# Altium footprint library SG__PCB_Chip.PcbLib: 121 footprints (part 6 of 8)
Each footprint in its own frame and in the unit in brackets; x right, y up, seen from the top. Pads: shape width x height; smd on the part's side, far side on the other; paste and mask are expansions set on the pad; w line width, h text height; cw(c..) or ccw(c..) is an arc to the next point about the centre after c.
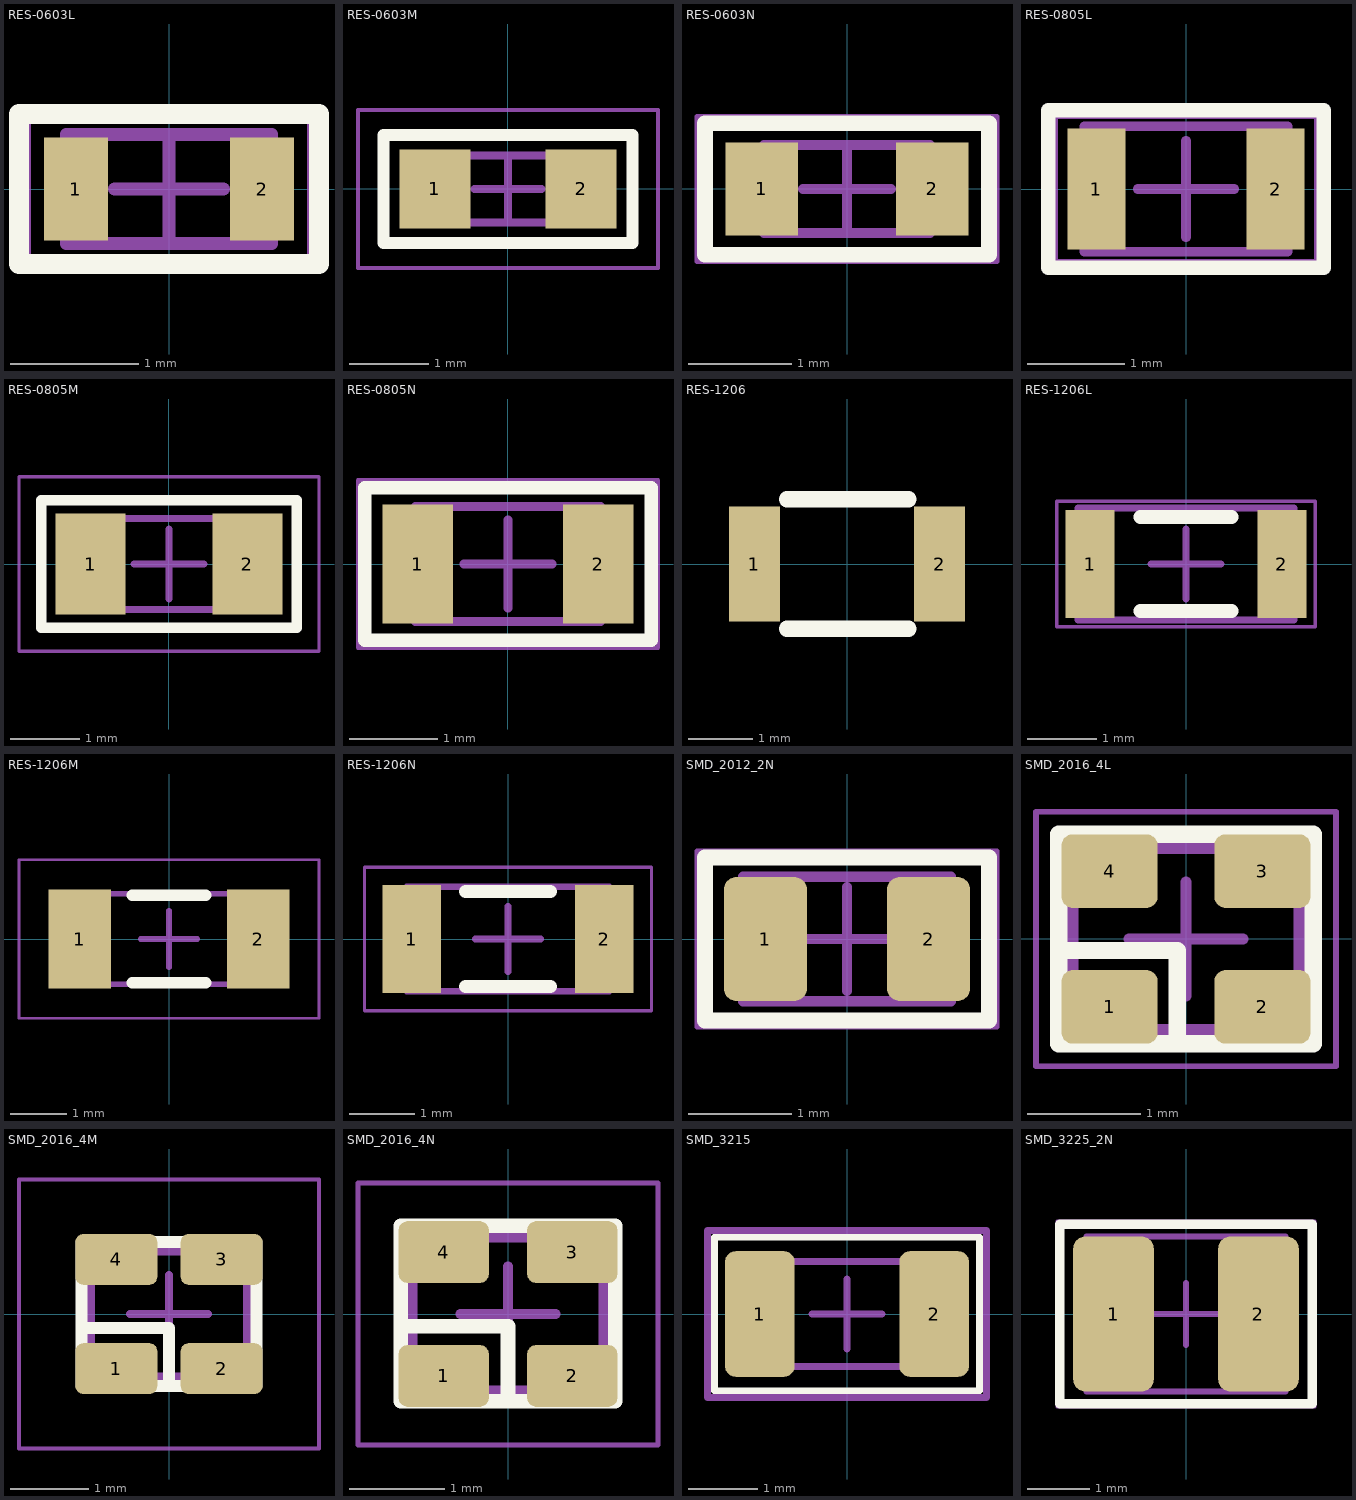
[diagram p5: the footprints below, top view; thin cyan lines are the x and y axes]

## RES-0603L [mm] "Chip Resistor, 2-Leads, Body 1,60x0,85mm, IPC High Density"
height 0.45
pads (2):
  rect 0.5x0.8 smd: 1(-0.725,0) 2(0.725,0)
Top Overlay:
  lines w0.152: -1.168,-0.584 -1.168,-0.559 -1.168,0.584 1.168,0.584 1.168,-0.584 -1.143,-0.584
Assembly Top:
  lines w0.1: -0.8,-0.425 -0.8,0.425 0.8,0.425 0.8,-0.425 -0.8,-0.425
Courtyard Top:
  lines w0.05: -1.1,-0.55 -1.1,0.55 1.1,0.55 1.1,-0.55 -1.1,-0.55
  lines w0.1: -0.425,0 0.425,0 ; 0,-0.425 0,0.425
3D body "RESC1608X04L.step": height 0.45, standoff 0, extent -0.8,-0.425 0.8,0.425

## RES-0603M [mm] "Chip Resistor, 2-Leads, Body 1,60x0,85mm, IPC Low Density"
height 0.45
pads (2):
  rect 0.9x1 smd: 1(-0.925,0) 2(0.925,0)
Top Overlay:
  lines w0.152: -1.575,-0.381 -1.575,-0.686 -1.245,-0.686 ; -1.575,-0.66 -1.549,-0.686 1.575,-0.686 1.575,0.686 -1.575,0.686 -1.575,-0.66
Assembly Top:
  lines w0.1: -0.8,-0.425 -0.8,0.425 0.8,0.425 0.8,-0.425 -0.8,-0.425
Courtyard Top:
  lines w0.05: -1.9,-1 -1.9,1 1.9,1 1.9,-1 -1.9,-1
  lines w0.1: -0.425,0 0.425,0 ; 0,-0.425 0,0.425
3D body "RESC1608X04M.step": height 0.45, standoff 0, extent -0.8,-0.425 0.8,0.425

## RES-0603N [mm] "Chip Resistor, 2-Leads, Body 1,60x0,85mm, IPC Medium Density"
height 0.45
pads (2):
  rect 0.7x0.9 smd: 1(-0.825,0) 2(0.825,0)
Top Overlay:
  lines w0.152: -1.372,-0.635 -1.372,0.635 1.372,0.635 1.372,-0.635 -1.346,-0.635
Assembly Top:
  lines w0.1: -0.8,-0.425 -0.8,0.425 0.8,0.425 0.8,-0.425 -0.8,-0.425
Courtyard Top:
  lines w0.05: -1.45,-0.7 -1.45,0.7 1.45,0.7 1.45,-0.7 -1.45,-0.7
  lines w0.1: -0.425,0 0.425,0 ; 0,-0.425 0,0.425
3D body "RESC1608X04N.step": height 0.45, standoff 0, extent -0.8,-0.425 0.8,0.425

## RES-0805L [mm] "Chip Resistor, 2-Leads, Body 2,10x1,30mm, IPC High Density"
height 0.5
pads (2):
  rect 0.6x1.25 smd: 1(-0.925,0) 2(0.925,0)
Top Overlay:
  lines w0.152: -1.422,-0.813 -1.422,0.813 1.422,0.813 1.422,-0.813 -1.422,-0.813
Assembly Top:
  lines w0.1: -1.05,-0.65 -1.05,0.65 1.05,0.65 1.05,-0.65 -1.05,-0.65
Courtyard Top:
  lines w0.05: -1.35,-0.75 -1.35,0.75 1.35,0.75 1.35,-0.75 -1.35,-0.75
  lines w0.1: -0.5,0 0.5,0 ; 0,-0.5 0,0.5
3D body "RESC2113X05L.step": height 0.5, standoff 0, extent -1.05,-0.65 1.05,0.65

## RES-0805M [mm] "Chip Resistor, 2-Leads, Body 2,10x1,30mm, IPC Low Density"
height 0.5
pads (2):
  rect 1x1.45 smd: 1(-1.125,0) 2(1.125,0)
Top Overlay:
  lines w0.152: -1.803,-0.914 1.829,-0.914 1.829,0.914 -1.803,0.914 -1.829,0.914 -1.829,0.102 -1.829,-0.914 -1.245,-0.914
Assembly Top:
  lines w0.1: -1.05,-0.65 -1.05,0.65 1.05,0.65 1.05,-0.65 -1.05,-0.65
Courtyard Top:
  lines w0.05: -2.15,-1.25 -2.15,1.25 2.15,1.25 2.15,-1.25 -2.15,-1.25
  lines w0.1: -0.5,0 0.5,0 ; 0,-0.5 0,0.5
3D body "RESC2113X05M.step": height 0.5, standoff 0, extent -1.05,-0.65 1.05,0.65

## RES-0805N [mm] "Chip Resistor, 2-Leads, Body 2,10x1,30mm, IPC Medium Density"
height 0.5
pads (2):
  rect 0.8x1.35 smd: 1(-1.025,0) 2(1.025,0)
Top Overlay:
  lines w0.152: -1.6,-0.864 1.626,-0.864 1.626,0.864 -1.626,0.864 -1.626,-0.864 -1.549,-0.864
Assembly Top:
  lines w0.1: -1.05,-0.65 -1.05,0.65 1.05,0.65 1.05,-0.65 -1.05,-0.65
Courtyard Top:
  lines w0.05: -1.7,-0.95 -1.7,0.95 1.7,0.95 1.7,-0.95 -1.7,-0.95
  lines w0.1: -0.5,0 0.5,0 ; 0,-0.5 0,0.5
3D body "RESC2113X05N.step": height 0.5, standoff 0, extent -1.05,-0.65 1.05,0.65

## RES-1206 [mm]
pads (2):
  rect 0.8x1.8 smd mask+0.05: 1(-1.45,0) 2(1.45,0)
Top Overlay:
  lines w0.254: -0.942,-1.016 0.963,-1.016 ; -0.942,1.016 0.963,1.016
3D body "RES 1206.step": height 0.57, standoff 0, extent -1.501,-0.711 1.599,0.841

## RES-1206L [mm] "Chip Resistor, 2-Leads, Body 3,10x1,60mm, IPC High Density"
height 0.55
pads (2):
  rect 0.7x1.55 smd: 1(-1.375,0) 2(1.375,0)
Top Overlay:
  lines w0.2: -0.65,-0.675 0.65,-0.675 ; -0.65,0.675 0.65,0.675
Assembly Top:
  lines w0.1: -1.55,-0.8 -1.55,0.8 1.55,0.8 1.55,-0.8 -1.55,-0.8
Courtyard Top:
  lines w0.05: -1.85,-0.9 -1.85,0.9 1.85,0.9 1.85,-0.9 -1.85,-0.9
  lines w0.1: -0.5,0 0.5,0 ; 0,-0.5 0,0.5
3D body "RESC3116X06L.step": height 0.55, standoff 0, extent -1.55,-0.8 1.55,0.8

## RES-1206M [mm] "Chip Resistor, 2-Leads, Body 3,10x1,60mm, IPC Low Density"
height 0.55
pads (2):
  rect 1.1x1.75 smd: 1(-1.575,0) 2(1.575,0)
Top Overlay:
  lines w0.2: -0.65,-0.775 0.65,-0.775 ; -0.65,0.775 0.65,0.775
Assembly Top:
  lines w0.1: -1.55,-0.8 1.55,-0.8 1.55,0.8 -1.55,0.8 -1.55,-0.8
Courtyard Top:
  lines w0.05: -2.65,-1.4 2.65,-1.4 2.65,1.4 -2.65,1.4 -2.65,-1.4
  lines w0.1: -0.5,0 0.5,0 ; 0,-0.5 0,0.5
3D body "RESC3116X06M.step": height 0.55, standoff 0, extent -1.55,-0.8 1.55,0.8

## RES-1206N [mm] "Chip Resistor, 2-Leads, Body 3,10x1,60mm, IPC Medium Density"
height 0.55
pads (2):
  rect 0.9x1.65 smd: 1(-1.475,0) 2(1.475,0)
Top Overlay:
  lines w0.2: -0.65,-0.725 0.65,-0.725 ; -0.65,0.725 0.65,0.725
Assembly Top:
  lines w0.1: -1.55,-0.8 1.55,-0.8 1.55,0.8 -1.55,0.8 -1.55,-0.8
Courtyard Top:
  lines w0.05: -2.2,-1.1 2.2,-1.1 2.2,1.1 -2.2,1.1 -2.2,-1.1
  lines w0.1: -0.5,0 0.5,0 ; 0,-0.5 0,0.5
3D body "RESC3116X06N.step": height 0.55, standoff 0, extent -1.55,-0.8 1.55,0.8

## SMD_2012_2N [mm] "DFN, 2-Leads, Body 1,20x2,00mm, Pitch 1,50mm, IPC Medium Density"
height 0.6
pads (2):
  rrect30% 0.8x1.2 smd: 1(-0.787,0) 2(0.787,0)
Top Overlay:
  lines w0.152: -0.762,-0.787 1.372,-0.787 1.372,-0.152 1.372,0.787 1.016,0.787 -1.372,0.787 -1.372,0.051 -1.372,-0.787 -0.711,-0.787
Assembly Top:
  lines w0.1: -1,-0.6 1,-0.6 1,0.6 -1,0.6 -1,-0.6
Courtyard Top:
  lines w0.05: -1.448,-0.85 1.448,-0.85 1.448,0.85 -1.448,0.85 -1.448,-0.85
  lines w0.1: -0.5,0 0.5,0 ; 0,-0.5 0,0.5
3D body: height 0.6, standoff 0.05, extent -1,-0.6 1,0.6

## SMD_2016_4L [mm] "QFN, 4-Leads, Body 2,00x1,60mm, Pitch 1,35mm/1,05mm, IPC High Density"
height 0.65
pads (4):
  rrect30% 0.85x0.65 smd: 1(-0.675,-0.6) 2(0.675,-0.6) 3(0.675,0.6) 4(-0.675,0.6)
Top Overlay:
  lines w0.152: -1.118,-0.102 -0.076,-0.102 -0.076,-0.925 1.125,-0.925 1.125,0.175 1.125,0.925 -0.1,0.925 -1.125,0.925 -1.125,-0.6 -1.125,-0.925 -0.075,-0.925
Assembly Top:
  lines w0.1: -1,-0.8 1,-0.8 1,0.8 -1,0.8 -1,-0.8
Courtyard Top:
  lines w0.05: -1.325,-1.125 1.325,-1.125 1.325,1.125 -1.325,1.125 -1.325,-1.125
  lines w0.1: -0.5,0 0.5,0 ; 0,-0.5 0,0.5
3D body: height 0.65, standoff 0, extent -1,-0.801 1,0.801

## SMD_2016_4M [mm] "QFN, 4-Leads, Body 2,00x1,60mm, Pitch 1,35mm/1,05mm, IPC Low Density"
height 0.65
pads (4):
  rrect30% 1.05x0.65 smd: 1(-0.675,-0.7) 2(0.675,-0.7) 3(0.675,0.7) 4(-0.675,0.7)
Top Overlay:
  lines w0.152: -1.092,-0.178 0,-0.178 0,-0.925 -1.125,-0.925 -1.125,-0.6 -1.125,0.925 -0.1,0.925 1.125,0.925 1.125,0.175 1.125,-0.925 -0.1,-0.925
Assembly Top:
  lines w0.1: -1,-0.8 1,-0.8 1,0.8 -1,0.8 -1,-0.8
Courtyard Top:
  lines w0.05: -1.925,-1.725 1.925,-1.725 1.925,1.725 -1.925,1.725 -1.925,-1.725
  lines w0.1: -0.5,0 0.5,0 ; 0,-0.5 0,0.5
3D body: height 0.65, standoff 0, extent -1,-0.801 1,0.801

## SMD_2016_4N [mm] "QFN, 4-Leads, Body 2,00x1,60mm, Pitch 1,35mm/1,05mm, IPC Medium Density"
height 0.65
pads (4):
  rrect30% 0.95x0.65 smd: 1(-0.675,-0.65) 2(0.675,-0.65) 3(0.675,0.65) 4(-0.675,0.65)
Top Overlay:
  lines w0.152: -1.092,-0.127 0,-0.127 0,-0.914 ; 0,-0.914 1.125,-0.914 1.125,0.175 1.125,0.925 -0.1,0.925 -1.125,0.925 -1.125,-0.6 -1.125,-0.914 0,-0.914
Assembly Top:
  lines w0.1: -1,-0.8 1,-0.8 1,0.8 -1,0.8 -1,-0.8
Courtyard Top:
  lines w0.05: -1.575,-1.375 1.575,-1.375 1.575,1.375 -1.575,1.375 -1.575,-1.375
  lines w0.1: -0.5,0 0.5,0 ; 0,-0.5 0,0.5
3D body: height 0.65, standoff 0, extent -1,-0.801 1,0.801

## SMD_3215 [mm] "Crystal"
height 0.85
pads (2):
  rrect30% 1x1.8 smd: 1(-1.25,0) 2(1.25,0)
Top Overlay:
  lines w0.1: -1.9,-1.1 1.9,-1.1 1.9,1.1 -1.9,1.1 -1.9,-1.1
Assembly Top:
  lines w0.1: -1.6,-0.75 1.6,-0.75 1.6,0.75 -1.6,0.75 -1.6,-0.75
Courtyard Top:
  lines w0.1: -0.5,0 0.5,0 ; 0,-0.5 0,0.5 ; -2,-1.2 2,-1.2 2,-0.9 2,1.2 -2,1.2 -2,-1.2
3D body "crystal_rtf3215.stp": height 0.9, standoff -0.01, extent -1.6,-0.75 1.6,0.75

## SMD_3225_2N [mm] "DFN, 2-Leads, Body 2,50x3,20mm, Pitch 1,90mm, IPC Medium Density"
height 0.85
pads (2):
  rrect30% 1.3x2.5 smd: 1(-1.168,0) 2(1.168,0)
Top Overlay:
  lines w0.152: -2.032,-1.448 -2.032,1.448 2.032,1.448 2.032,-1.448 -2.032,-1.448
Assembly Top:
  lines w0.1: -1.6,-1.25 1.6,-1.25 1.6,1.25 -1.6,1.25 -1.6,-1.25
Courtyard Top:
  lines w0.05: -2.083,-1.5 2.083,-1.5 2.083,1.5 -2.083,1.5 -2.083,-1.5
  lines w0.1: -0.5,0 0.5,0 ; 0,-0.5 0,0.5
3D body: height 0.85, standoff 0.05, extent -1.6,-1.25 1.6,1.25